# Altium footprint library Leds.PcbLib: 6 footprints
Each footprint in its own frame and in the unit in brackets; x right, y up, seen from the top. Pads: shape width x height; smd on the part's side, far side on the other; paste and mask are expansions set on the pad; w line width, h text height; cw(c..) or ccw(c..) is an arc to the next point about the centre after c.
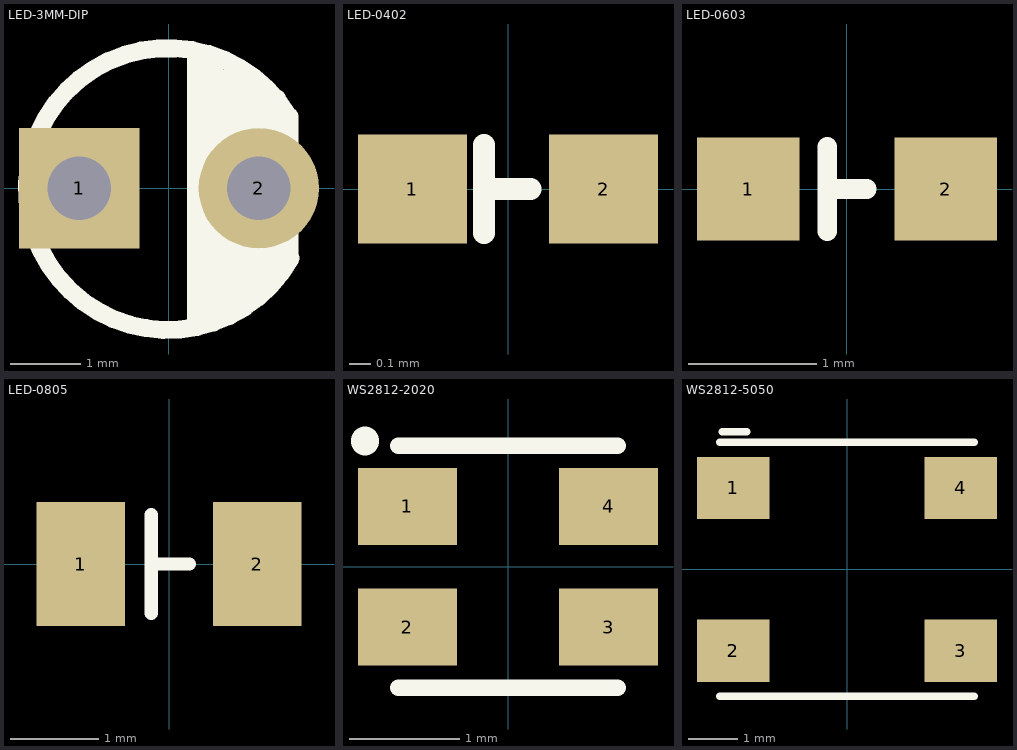
[diagram p0: the footprints below, top view; thin cyan lines are the x and y axes]

## LED-3MM-DIP [mm] "DIP LED"
height 6.35
pads (2):
  rect 1.7x1.7 hole 0.9: 1(-1.27,0)
  round 1.7 hole 0.9: 2(1.27,0)
Top Overlay:
  lines w0.254: 0.381,-1.905 0.381,1.905 ; 0.635,-1.778 0.635,1.778 ; 1.016,-1.651 1.016,1.524 ; 1.524,1.27 1.524,-1.27 1.27,-1.524 1.27,1.397 1.143,1.524 1.016,1.524 ; 1.685,1.025 ccw(c-0.016,-0.012) 1.72,-0.987 ; 1.702,-0.965 1.702,1.016 ; 0.889,1.651 0.889,-1.778 0.889,1.651 ; 0.889,1.651 1.016,1.524
3D body "LED 3mm-R.STEP": height 3.01, standoff -3.45, extent -1.623,-0.838 1.618,0.838
3D body "LED 3mm-玻璃罩.STEP": height 5.55, standoff 0.05, extent -1.95,-1.947 1.638,1.947

## LED-0402 [mm]
pads (2):
  rect 0.5x0.5 smd paste-100 mask+0.051: 1(-0.438,0) 2(0.438,0)
Top Overlay:
  lines w0.1: -0.11,-0.203 -0.11,0.203 ; -0.11,0 0.105,0
3D body "02.STEP": height 0.2, standoff -0.01, extent -0.513,-0.25 0.507,0.25

## LED-0603 [mm] "Paster LED"
height 2.8
pads (2):
  rect 0.8x0.8 smd: 1(-0.77,0) 2(0.77,0)
Top Overlay:
  lines w0.152: 0.152,0 -0.152,0 ; -0.152,0 -0.152,0.33 -0.152,-0.33 -0.152,0
3D body "User Library-LED_0603_R.STEP": height 0.6, standoff 0, extent -0.8,-0.4 0.8,0.4

## LED-0805 [mm] "Paster LED"
height 2.8
pads (2):
  rect 1x1.4 smd: 1(-1,0) 2(1,0)
Top Overlay:
  lines w0.152: -0.203,-0.559 -0.203,0.559 ; -0.203,0 0.229,0
3D body "User Library-led_0805.step": height 1.1, standoff 0, extent -1.01,-0.625 1.01,0.625

## WS2812-2020 [mm] "WS2812-2020"
pads (4):
  rect 0.9x0.7 smd mask+0.051: 1(-0.915,0.55) 2(-0.915,-0.55) 3(0.915,-0.55) 4(0.915,0.55)
Top Overlay:
  lines w0.152: -1,-1.1 1,-1.1 ; -1,1.1 1,1.1
  lines w0.254: -1.3,1.138 -1.3,1.15
Mechanical 6:
  region: 0.925,-0.75 0.925,-0.7 0.975,-0.7 0.975,-0.4 0.925,-0.4 0.925,-0.35 1.075,-0.35 1.075,-0.4 1.025,-0.4 1.025,-0.7 1.075,-0.7 1.075,-0.75 0.925,-0.75
  region: 0.55,-0.35 0.55,-0.75 0.7,-0.75 0.75,-0.75 0.8,-0.7 0.8,-0.4 0.75,-0.35 0.65,-0.35 0.65,-0.4 0.75,-0.4 0.75,-0.7 0.6,-0.7 0.6,-0.35
  region: -1.175,0.7 -1.175,0.3 -1.025,0.3 -0.975,0.3 -0.925,0.35 -0.925,0.65 -0.975,0.7 -1.075,0.7 -1.075,0.65 -0.975,0.65 -0.975,0.35 -1.125,0.35 -1.125,0.7
  region: -0.8,0.7 -0.85,0.65 -0.85,0.35 -0.8,0.3 -0.6,0.3 -0.55,0.35 -0.55,0.65 -0.6,0.7 -0.7,0.7 -0.7,0.65 -0.6,0.65 -0.6,0.35 -0.8,0.35 -0.8,0.65 -0.75,0.65 -0.75,0.7
  region: 0.95,0.75 0.95,0.45 1.1,0.45 1.1,0.35 1.15,0.35 1.15,0.45 1.25,0.45 1.25,0.5 1.15,0.5 1.15,0.65 1.1,0.65 1.1,0.5 1,0.5 1,0.75
  region: 0.56,0.6 0.8,0.6 0.8,0.55 0.56,0.55
  region: 0.655,0.455 0.655,0.695 0.705,0.695 0.705,0.455
  region: -1.18,-0.665 -0.94,-0.665 -0.94,-0.715 -1.18,-0.715
  region: -0.82,-0.38 -0.58,-0.38 -0.58,-0.56 -0.79,-0.56 -0.79,-0.67 -0.58,-0.67 -0.58,-0.72 -0.82,-0.72 -0.83,-0.72 -0.83,-0.71 -0.83,-0.52 -0.61,-0.52 -0.61,-0.42 -0.83,-0.42 -0.83,-0.38

## WS2812-5050 [mm] "WS2812-5050"
pads (4):
  rect 1.465x1.26 smd: 1(-2.307,1.65) 2(-2.307,-1.65) 3(2.307,-1.65) 4(2.307,1.65)
Top Overlay:
  lines w0.152: -2.576,-2.576 2.576,-2.576 ; -2.576,2.576 2.576,2.576 ; -2.532,2.794 -2.032,2.794
3D body "User Library-ws2812B-1.step": height 1.6, standoff 0.03, extent -2.7,-2.5 2.7,2.5